# Altium schematic symbol library Y0062100K000T9L.SchLib: 1 symbol
Pins are listed as number, name and electrical type; pins without a type are passive.

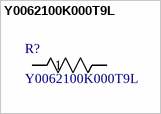
[diagram p0: symbol Y0062100K000T9L]

## Y0062100K000T9L
designator R?
No Description Available; Manufacturer_Name: Vishay; Copyright: Copyright (C) 2026 Ultra Librarian. All rights reserved.; Manufacturer_Part_Number: Y0062100K000T9L
footprint RES_S102K_7P62X2P67_VIS
pins: 1, 2